# Altium footprint library CYT4Bx主板 V1.0.PcbLib: 35 footprints (part 3 of 3)
Each footprint in its own frame and in the unit in brackets; x right, y up, seen from the top. Pads: shape width x height; smd on the part's side, far side on the other; paste and mask are expansions set on the pad; w line width, h text height; cw(c..) or ccw(c..) is an arc to the next point about the centre after c.
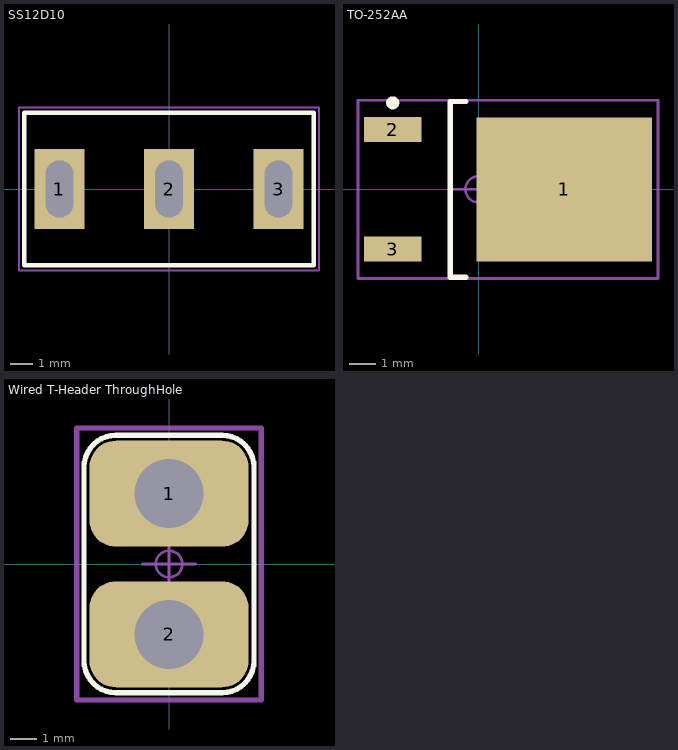
[diagram p2: the footprints below, top view; thin cyan lines are the x and y axes]

## SS12D10 [mm] "拨动开关，直脚，脚距4.8"
height 0.85
pads (3):
  rect 2.2x3.5 hole 1.2 slot 2.5 at 90 deg mask+0.07: 1(-4.8,0) 2(0,0) 3(4.8,0)
Top Overlay:
  lines w0.2: -6.35,-3.35 6.35,-3.35 6.35,3.35 -6.35,3.35 -6.35,-3.3
Top Designator:
  text ".Designator" at 2.251,0.314 h1
Top Component Outline:
  lines w0.1: -6.575,-3.575 6.575,-3.575 6.575,3.575 -6.575,3.575 -6.575,-3.575
Top Component Center:
  circle w0.1: c0,0 r0.5
  lines w0.1: -1,0 1,0 ; 0,-1 0,1
3D body "ms-13aap1.stp": height 12.5, standoff -5.4, extent -6.4,-3.3 6.35,3.8

## TO-252AA [mm] "D-PAK, 4-Leads, Body 6.1x6.5mm, Pitch 2.28mm, Lead Span 9.8mm, IPC Low Density"
height 2.38
pads (3):
  rect 6.7x5.5 smd: 1(3.275,0)
  rect 2.2x0.95 smd: 2(-3.275,2.28) 3(-3.275,-2.28)
Top Overlay:
  circle w0.25: c-3.275,3.305 r0.125
  lines w0.2: -0.475,-3.35 -1.075,-3.35 -1.075,3.35 -0.475,3.35
Top Designator:
  text ".Designator" at -1.126,-0.174 h1
Top Component Outline:
  lines w0.1: -4.6,-3.4 -4.6,3.4 6.85,3.4 6.85,-3.4 -4.6,-3.4
Top Component Center:
  circle w0.1: c0,0 r0.5
  lines w0.1: -1,0 1,0 ; 0,-1 0,1
3D body "User Library-DPAK-1.STEP": height 2.39, standoff -0.02, extent -3.775,-3.27 6.163,3.27

## Wired T-Header ThroughHole [mm] "带线T头直插焊盘"
height 0.85
pads (2):
  rrect50% 6x4 hole 2.6: 1(0,2.65) 2(0,-2.65)
Top Overlay:
  lines w0.203: -3.2,-3.65 ccw(c-2,-3.65) -2,-4.85 2,-4.85 ccw(c2,-3.65) 3.2,-3.65 3.2,3.65 ccw(c2,3.65) 2,4.85 -2,4.85 ccw(c-2,3.65) -3.2,3.65 -3.2,-3.65
Top Designator:
  text ".Designator" at -0.226,2.251 h1
Top Component Outline:
  lines w0.2: -3.475,-5.125 3.475,-5.125 3.475,5.125 -3.475,5.125 -3.475,-5.125
Top Component Center:
  circle w0.1: c0,0 r0.5
  lines w0.1: -1,0 1,0 ; 0,-1 0,1